# Altium footprint library SLW-120-01-G-S.PcbLib: 1 footprints
Each footprint in its own frame and in the unit in brackets; x right, y up, seen from the top. Pads: shape width x height; smd on the part's side, far side on the other; paste and mask are expansions set on the pad; w line width, h text height; cw(c..) or ccw(c..) is an arc to the next point about the centre after c.
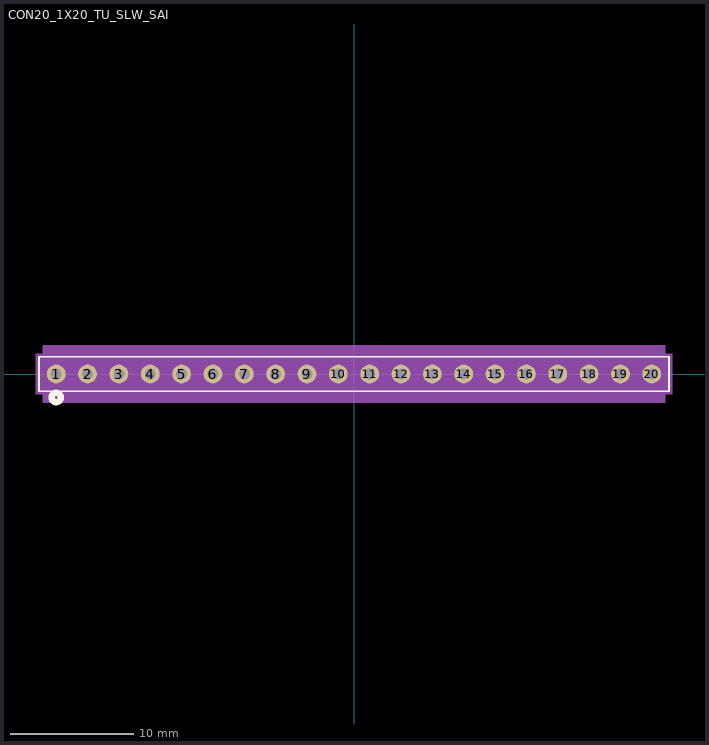
[diagram p0: the footprint, top view; thin cyan lines are the x and y axes]

## CON20_1X20_TU_SLW_SAI [mil]
pads (20):
  round 60 hole 35 mask+0: 1(-950,0) 2(-850,0) 3(-750,0) 4(-650,0) 5(-550,0) 6(-450,0) 7(-350,0) 8(-250,0) 9(-150,0) 10(-50,0) 11(50,0) 12(150,0) 13(250,0) 14(350,0) 15(450,0) 16(550,0) 17(650,0) 18(750,0) 19(850,0) 20(950,0)
Top Overlay:
  circle w20: c-950,-75 r15
  lines w6: -1005,-55 1005,-55 1005,55 -1005,55 -1005,-55
Bottom Overlay:
  circle w20: c-950,-75 r15
Mechanical 5:
  region: -1015,65 1015,65 1015,-65 -1015,-65
Mechanical 13:
  circle w0: c-950,0 r10
  lines w1: -1000,-50 1000,-50 1000,50 -1000,50 -1000,-50
Mechanical 15:
  region: 1010,60 990,60 990,90 -990,90 -990,60 -1010,60 -1010,-60 -990,-60 -990,-90 990,-90 990,-60 1010,-60
  lines w6: -1010,-60 -1010,60 -990,60 -990,90 990,90 990,60 1010,60 1010,-60 990,-60 990,-90 -990,-90 -990,-60 -1010,-60
3D body: height 10, standoff 0, extent 0,0 10,10